# Altium footprint library Button.PcbLib: 6 footprints
Each footprint in its own frame and in the unit in brackets; x right, y up, seen from the top. Pads: shape width x height; smd on the part's side, far side on the other; paste and mask are expansions set on the pad; w line width, h text height; cw(c..) or ccw(c..) is an arc to the next point about the centre after c.
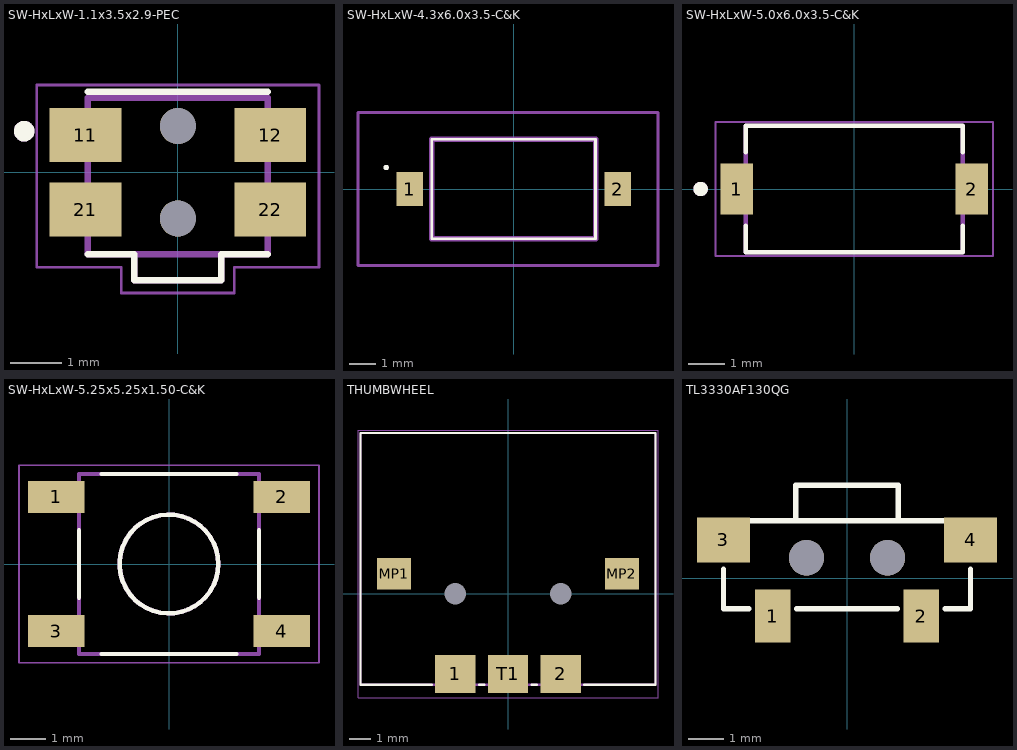
[diagram p0: the footprints below, top view; thin cyan lines are the x and y axes]

## SW-HxLxW-1.1x3.5x2.9-PEC [mm]
pads (6):
  rect 1.4x1.05 smd: 11(-1.8,0.725) 12(1.8,0.725) 21(-1.8,-0.725) 22(1.8,-0.725)
  round 0.7 hole 0.7 unplated: ""(0,-0.9) ""(0,0.9)
Top Overlay:
  circle w0.2: c-2.992,0.8 r0.1
  lines w0.127: -1.75,-1.6 -0.85,-1.6 -0.85,-2.1 0.85,-2.1 0.85,-1.6 1.75,-1.6 ; -1.75,1.57 1.75,1.57
Mechanical 1:
  lines w0.127: -0.85,-1.6 -0.85,-2.1 0.85,-2.1 0.85,-1.6 ; -0.85,-1.6 -1.75,-1.6 -1.75,1.45 1.75,1.45 1.75,-1.6 0.85,-1.6 ; -0.85,-1.6 0.85,-1.6
Mechanical 13:
  circle w0.2: c-2.992,0.8 r0.1
  lines w0.127: -0.85,-1.6 -0.85,-2.1 0.85,-2.1 0.85,-1.6 ; -0.85,-1.6 -1.75,-1.6 -1.75,1.45 1.75,1.45 1.75,-1.6 0.85,-1.6 ; -0.85,-1.6 0.85,-1.6
Mechanical 15:
  lines w0.05: -2.75,-1.85 -1.1,-1.85 -1.1,-2.35 1.1,-2.35 1.1,-1.85 2.75,-1.85 2.75,1.7 -2.75,1.7 -2.75,-1.85
Mechanical 29:
  lines w0.05: -2.75,-1.85 -1.1,-1.85 -1.1,-2.35 1.1,-2.35 1.1,-1.85 2.75,-1.85 2.75,1.7 -2.75,1.7 -2.75,-1.85
  text "'.Designator'" at -1.778,-0.381 h0.7
3D body "step_temp.STEP": height 1.5, standoff -0.35, extent -2.35,-2.1 2.35,1.594

## SW-HxLxW-4.3x6.0x3.5-C&K [mm]
pads (2):
  rect 1x1.25 smd: 1(-3.875,0) 2(3.875,0)
Top Overlay:
  lines w0.1: -4.8,0.8 cw(c-4.75,0.8) -4.7,0.8 cw(c-4.75,0.8) -4.8,0.8 ; -3.05,-1.85 -3.05,1.85 3.05,1.85 3.05,-1.85 -3.05,-1.85
Mechanical 1:
  lines w0.2: -3.05,-1.85 -3.05,1.85 3.05,1.85 3.05,-1.85 -3.05,-1.85
Mechanical 13:
  lines w0.2: -3.05,-1.85 -3.05,1.85 3.05,1.85 3.05,-1.85 -3.05,-1.85
Mechanical 15:
  lines w0.1: -5.8,-2.85 5.375,-2.85 5.375,2.85 -5.8,2.85 -5.8,-2.85
Mechanical 29:
  lines w0.1: -5.8,-2.85 5.375,-2.85 5.375,2.85 -5.8,2.85 -5.8,-2.85
  text "'.Designator'" at -3.683,-0.508 h1.52
3D body "PTS636SM43SMTRLFS.stp": height 4.3, standoff -0.03, extent -4.3,-1.75 4.3,1.75

## SW-HxLxW-5.0x6.0x3.5-C&K [mm]
height 4.3
pads (2):
  rect 0.9x1.4 smd: 1(-3.25,0) 2(3.25,0)
Top Overlay:
  circle w0.2: c-4.25,0 r0.1
  lines w0.127: -3,-1.014 -3,-1.75 3,-1.75 3,-1.014 ; -3,1.014 -3,1.75 3,1.75 3,1.014
Mechanical 1:
  lines w0.127: -3,-1.75 3,-1.75 3,1.75 -3,1.75 -3,-1.75
Mechanical 13:
  circle w0.2: c-4.25,0 r0.1
  lines w0.127: -3,-1.75 3,-1.75 3,1.75 -3,1.75 -3,-1.75
Mechanical 15:
  lines w0.05: -3.835,-1.854 -3.835,1.854 3.835,1.854 3.835,-1.854 -3.835,-1.854
Mechanical 29:
  lines w0.05: -3.835,-1.854 -3.835,1.854 3.835,1.854 3.835,-1.854 -3.835,-1.854
  text "'.Designator'" at -3.683,-0.762 h1.52
3D body "step_temp.STEP": height 4.3, standoff 0, extent -3.55,-1.75 3.55,1.75

## SW-HxLxW-5.25x5.25x1.50-C&K [mm]
pads (4):
  rect 1.6x0.9 smd: 1(-3.2,1.9) 2(3.2,1.9) 3(-3.2,-1.9) 4(3.2,-1.9)
Top Overlay:
  circle w0.127: c0,0 r1.4
  lines w0.127: -2.55,-0.956 -2.55,0.956 ; -1.913,-2.55 1.913,-2.55 ; -1.913,2.55 1.913,2.55 ; 2.55,-0.956 2.55,0.956
Mechanical 1:
  circle w0.127: c0,0 r1.4
  lines w0.127: -2.55,-2.55 2.55,-2.55 2.55,2.55 -2.55,2.55 -2.55,-2.55
Mechanical 13:
  circle w0.127: c0,0 r1.4
  lines w0.127: -2.55,-2.55 2.55,-2.55 2.55,2.55 -2.55,2.55 -2.55,-2.55
Mechanical 15:
  lines w0.05: -4.25,-2.8 -4.25,2.8 4.25,2.8 4.25,-2.8 -4.25,-2.8
Mechanical 29:
  lines w0.05: -4.25,-2.8 -4.25,2.8 4.25,2.8 4.25,-2.8 -4.25,-2.8
  text "'.Designator'" at -1.651,-0.254 h0.7
3D body "step_temp.STEP": height 1.6, standoff 0, extent -3.2,-2.55 3.2,2.55

## THUMBWHEEL [mm]
pads (7):
  rect 1.9x1.8 smd: 1(-2.5,-3.8) 2(2.5,-3.8) T1(0,-3.8)
  round 0.5 hole 1 unplated: MH1(-2.5,0) MH2(2.5,0)
  rect 1.6x1.5 smd: MP1(-5.4,0.95) MP2(5.4,0.95)
Top Overlay:
  lines w0.1: -3.607,-4.318 -6.985,-4.318 -6.985,7.62 6.985,7.62 6.985,-4.318 3.607,-4.318 ; -1.372,-4.318 -1.118,-4.318 ; 1.118,-4.318 1.372,-4.318
Mechanical 1:
  lines w0.1: -6.985,-4.318 -6.985,7.62 6.985,7.62 6.985,-4.318 -6.985,-4.318
Mechanical 13:
  lines w0.1: -6.985,-4.318 -6.985,7.62 6.985,7.62 6.985,-4.318 -6.985,-4.318
Mechanical 15:
  lines w0.05: -7.112,-4.928 -7.112,7.747 7.112,7.747 7.112,-4.928 -7.112,-4.928
Mechanical 29:
  lines w0.05: -7.112,-4.928 -7.112,7.747 7.112,7.747 7.112,-4.928 -7.112,-4.928
  text "'.Designator'" at -5.08,1.27 h2
3D body "NAV_SWITCH.STEP": height 2.3, standoff -0.1, extent -6.981,-4.301 6.981,7.62

## TL3330AF130QG [mm]
pads (6):
  rect 1x1.5 smd paste+0 mask+0.051: 1(-2.1,-1.079) 2(2.1,-1.079)
  rect 1.5x1.27 smd paste+0 mask+0.051: 3(-3.5,1.079) 4(3.5,1.079)
  round 1 hole 1 unplated paste-2539.97: ""(-1.15,0.575) ""(1.15,0.575)
Top Overlay:
  lines w0.15: -3.5,0.25 -3.5,-0.873 -2.779,-0.873 ; -2.721,1.627 2.721,1.627 ; -1.45,1.627 -1.45,2.627 1.45,2.627 1.45,1.627 ; -1.421,-0.873 1.421,-0.873 ; 2.779,-0.873 3.5,-0.873 3.5,0.25
Mechanical 15:
  circle w0.4: c1.15,0.575 r0.2
  circle w0.4: c-1.15,0.575 r0.2
3D body "SMT-microinterruptor momentáneo.SLDPRT": height 3.5, standoff -0.75, extent -3.934,-1.152 3.866,2.548